# EAGLE library part PINHEADER_1_8 (library Let'sMakeMyFabduino)
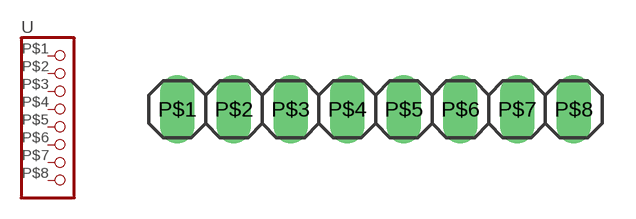
[diagram p2: symbol with the pads of PINHEADER_1_8; footprint PINHEADER_1_8]

Designator prefix -

## PINHEADER_1_8  [PINHEADER_1_8]
P$1  1  pas
P$2  2  pas
P$3  3  pas
P$4  4  pas
P$5  5  pas
P$6  6  pas
P$7  7  pas
P$8  8  pas

## Footprint PINHEADER_1_8 (pad centres in mm)
drill 1.03 pad 1.27 long: P$1 -8.89,0; P$2 -6.35,0; P$3 -3.81,0; P$4 -1.27,0; P$5 1.27,0; P$6 3.81,0; P$7 6.35,0; P$8 8.89,0